# EAGLE library part TDA7052AT/N2,112 (library TDA7052AT_N2_112)
1 W BTL mono audio amplifier with DC volume control Check prices <https://pricing.snapeda.com/parts/TDA7052AT/N2%2C112/NXP%20USA/view-part?ref=eda>
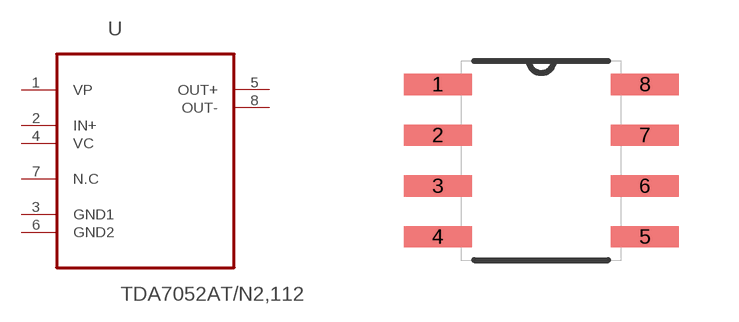
[diagram p0: symbol with the pads of SOIC127P600X175-8N; footprint SOIC127P600X175-8N]

Designator prefix U

## TDA7052AT/N2,112 (Availability: Bad; Description: Amplifier IC 1-Channel (Mono) Class AB 8-SO; MF: NXP USA; MP: TDA7052AT/N2,112; Package: SOIC-8 NXP Semiconductors; Price: None)  [SOIC127P600X175-8N]
1  VP  pwr
2  IN+  in
3  GND1  pas
4  VC  in
5  OUT+  out
6  GND2  pas
7  N.C  nc
8  OUT-  out

## Footprint SOIC127P600X175-8N (pad centres in mm)
smd 1.702 x 0.533: 1 -2.591,1.905; 2 -2.591,0.635; 3 -2.591,-0.635; 4 -2.591,-1.905; 5 2.591,-1.905; 6 2.591,-0.635; 7 2.591,0.635; 8 2.591,1.905